# EAGLE library part TE_2311586-5_VGA_CONNECTOR (library Steering)
15 Position D-Sub, High Density Receptacle, Female Sockets Connector
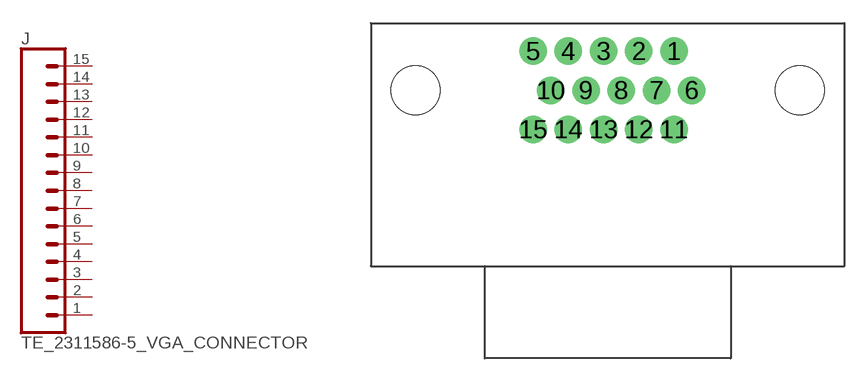
[diagram p5: symbol with the pads of TE_VGA_2311586-5; footprint TE_VGA_2311586-5]

Designator prefix J

## TE_2311586-5_VGA_CONNECTOR (DKPN: A144832-ND)  [TE_VGA_2311586-5]
1  1  pas
2  2  pas
3  3  pas
4  4  pas
5  5  pas
6  6  pas
7  7  pas
8  8  pas
9  9  pas
10  10  pas
11  11  pas
12  12  pas
13  13  pas
14  14  pas
15  15  pas

## Footprint TE_VGA_2311586-5 (pad centres in mm)
https://www.digikey.com/product-detail/en/te-connectivity-amp-connectors/2311586-5/A144832-ND/9992544
drill 1.19: 1 3.815,6.54; 2 1.525,6.54; 3 -0.765,6.54; 4 -3.055,6.54; 5 -5.345,6.54; 6 4.96,4; 7 2.67,4; 8 0.38,4; 9 -1.91,4; 10 -4.2,4; 11 3.815,1.46; 12 1.525,1.46; 13 -0.765,1.46; 14 -3.055,1.46; 15 -5.345,1.46
hole 3.18 at 12,4
hole 3.18 at -13,4